# EAGLE library part AD8218 (library ic-analog)
Zero Drift, Bidirectional Current Shunt Monitor datasheet <http://www.analog.com/media/en/technical-documentation/data-sheets/AD8218.pdf>
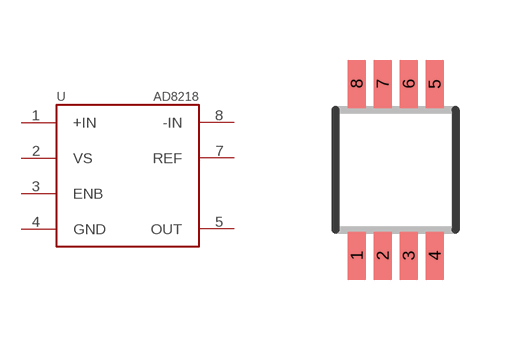
[diagram p3: symbol with the pads of RM-8; footprint RM-8]

Designator prefix -

## AD8218  [RM-8]
1  +IN  pas
2  VS  pas
3  ENB  pas
4  GND  pas
5  OUT  pas
7  REF  pas
8  -IN  pas

## Footprint RM-8 (pad centres in mm)
Analog Devices 8-lead MSOP
smd 0.45 x 1.2: 1 -0.975,-2.15; 2 -0.325,-2.15; 3 0.325,-2.15; 4 0.975,-2.15; 5 0.975,2.15; 6 0.325,2.15; 7 -0.325,2.15; 8 -0.975,2.15